# Altium footprint library SRes_KOA_PSG4NTEB1L00F_1mOhm.PcbLib: 1 footprints
Each footprint in its own frame and in the unit in brackets; x right, y up, seen from the top. Pads: shape width x height; smd on the part's side, far side on the other; paste and mask are expansions set on the pad; w line width, h text height; cw(c..) or ccw(c..) is an arc to the next point about the centre after c.
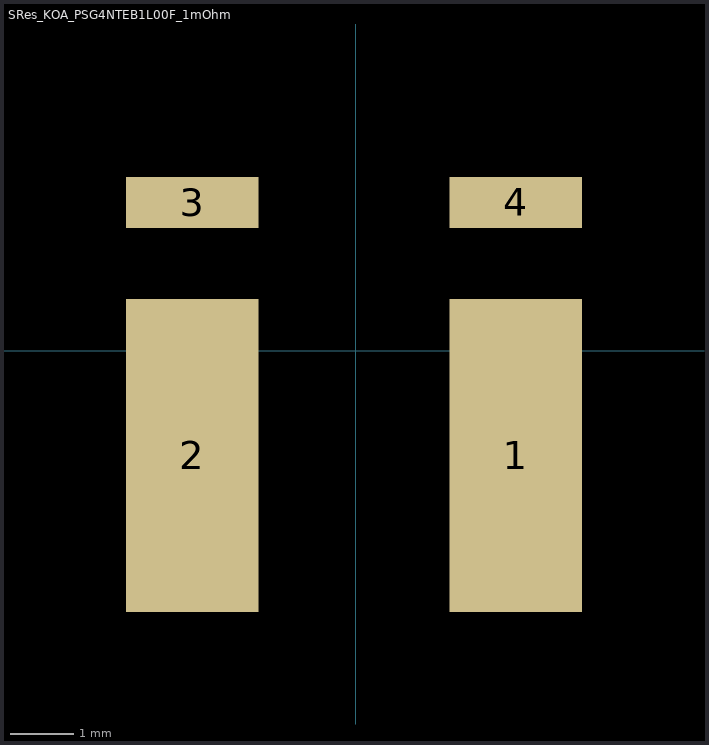
[diagram p0: the footprint, top view; thin cyan lines are the x and y axes]

## SRes_KOA_PSG4NTEB1L00F_1mOhm [mm]
pads (4):
  rect 2.1x4.95 smd: 1(2.532,-1.654) 2(-2.582,-1.654)
  rect 2.1x0.8 smd: 3(-2.582,2.346) 4(2.532,2.346)